# EAGLE library part XMOS-PORT-F2 (library sjg-con)
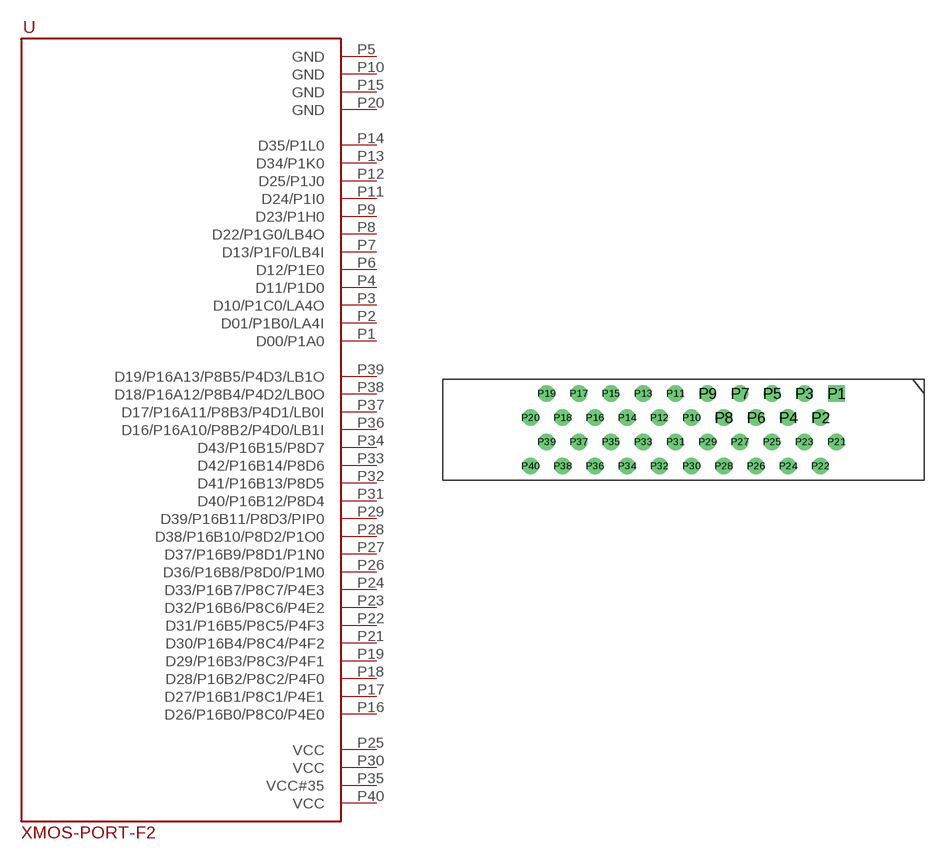
[diagram p3: symbol with the pads of JAE-TX24-40; footprint JAE-TX24-40]

Designator prefix -

## XMOS-PORT-F2  [JAE-TX24-40]
P1  D00/P1A0
P2  D01/P1B0/LA4I
P3  D10/P1C0/LA4O
P4  D11/P1D0
P5  GND
P6  D12/P1E0
P7  D13/P1F0/LB4I
P8  D22/P1G0/LB4O
P9  D23/P1H0
P10  GND
P11  D24/P1I0
P12  D25/P1J0
P13  D34/P1K0
P14  D35/P1L0
P15  GND
P16  D26/P16B0/P8C0/P4E0
P17  D27/P16B1/P8C1/P4E1
P18  D28/P16B2/P8C2/P4F0
P19  D29/P16B3/P8C3/P4F1
P20  GND
P21  D30/P16B4/P8C4/P4F2
P22  D31/P16B5/P8C5/P4F3
P23  D32/P16B6/P8C6/P4E2
P24  D33/P16B7/P8C7/P4E3
P25  VCC
P26  D36/P16B8/P8D0/P1M0
P27  D37/P16B9/P8D1/P1N0
P28  D38/P16B10/P8D2/P1O0
P29  D39/P16B11/P8D3/PIP0
P30  VCC
P31  D40/P16B12/P8D4
P32  D41/P16B13/P8D5
P33  D42/P16B14/P8D6
P34  D43/P16B15/P8D7
P35  VCC#35
P36  D16/P16A10/P8B2/P4D0/LB1I
P37  D17/P16A11/P8B3/P4D1/LB0I
P38  D18/P16A12/P8B4/P4D2/LB0O
P39  D19/P16A13/P8B5/P4D3/LB1O
P40  VCC

## Footprint JAE-TX24-40 (pad centres in mm)
drill 0.8 square: P1 12,3
drill 0.8: P2 10.73,1.095; P3 9.46,3; P4 8.19,1.095; P5 6.92,3; P6 5.65,1.095; P7 4.38,3; P8 3.11,1.095; P9 1.84,3; P10 0.57,1.095; P11 -0.7,3; P12 -1.97,1.095; P13 -3.24,3; P14 -4.51,1.095; P15 -5.78,3; P16 -7.05,1.095; P17 -8.32,3; P18 -9.59,1.095; P19 -10.86,3; P20 -12.13,1.095; P21 12,-0.81; P22 10.73,-2.715; P23 9.46,-0.81; P24 8.19,-2.715; P25 6.92,-0.81; P26 5.65,-2.715; P27 4.38,-0.81; P28 3.11,-2.715; P29 1.84,-0.81; P30 0.57,-2.715; P31 -0.7,-0.81; P32 -1.97,-2.715; P33 -3.24,-0.81; P34 -4.51,-2.715; P35 -5.78,-0.81; P36 -7.05,-2.715; P37 -8.32,-0.81; P38 -9.59,-2.715; P39 -10.86,-0.81; P40 -12.13,-2.715